# Altium schematic symbol library SCH - POWER - LINEAR VREG - TI TL720M05-Q1PWP_A.SchLib: 1 symbol
Pins are listed as number, name and electrical type; pins without a type are passive.

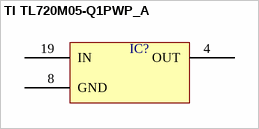
[diagram p0: symbol TI TL720M05-Q1PWP_A]

## TI TL720M05-Q1PWP_A
designator IC?  (value not drawn)
pins: 4 OUT, 8 GND, 19 IN